# Altium schematic symbol library jlcpcb_2025_04_inductors_extended_1008.schlib: 378 symbols (part 1 of 7)
Pins are listed as number, name and electrical type; pins without a type are passive.

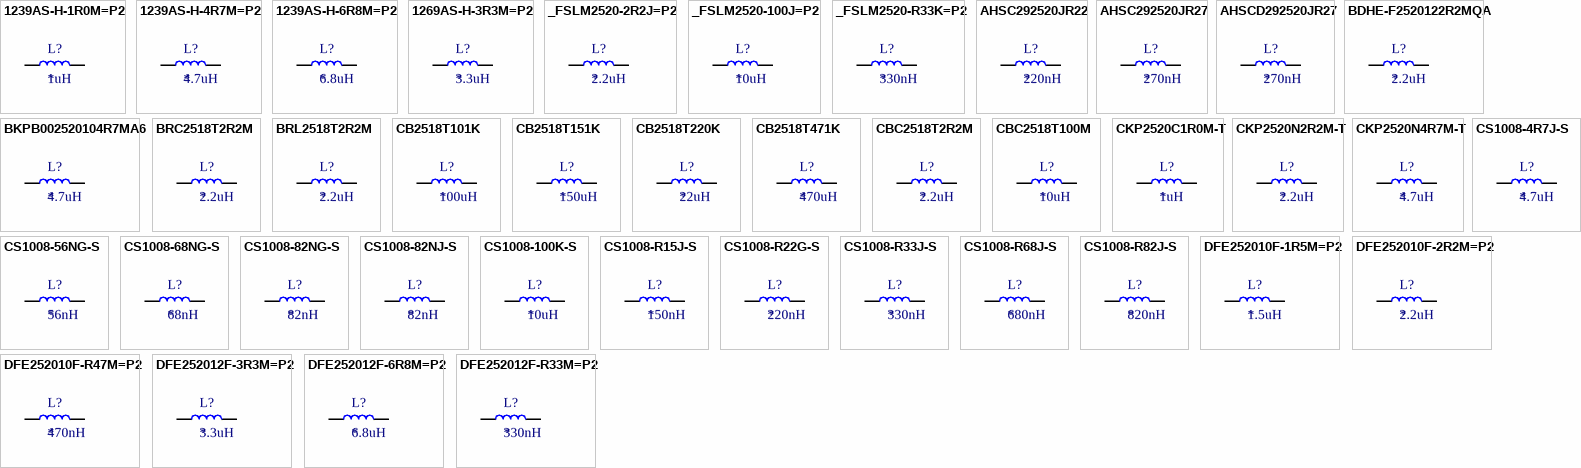
[diagram p0: symbols 1239AS-H-1R0M=P2 to DFE252012F-R33M=P2]

## 1239AS-H-1R0M=P2
designator L?  Inductance: 1uH
Inductor, 1uH, ±20%, 59mΩ, 3A, SMD 1008; Manufacturer: Murata Electronics; Manufacturer Part Number: 1239AS-H-1R0M=P2; Package Size: 1008; JLCPCB Basic Part: No; JLCPCB Part Number: C167447; Supplier 1: LCSC; Category: Inductors; Supplier Part Number 1: C167447; Tolerance: ±20%; Rated Current: 3A; DC Resistance: 59mΩ; RoHS: Yes; ComponentLink1Description: Datasheet; ComponentLink1URL: https://wmsc.lcsc.com/wmsc/upload/file/pdf/v2/lcsc/1810241615_Murata-Electronics-1239AS-H-1R0M-P2_C167447.pdf; ComponentLink2Description: JLCPCB Part URL; ComponentLink2URL: https://jlcpcb.com/partdetail/C167447; ComponentLink3Description: LCSC Part URL; ComponentLink3URL: https://lcsc.com/product-detail/Inductors-SMD_Murata-Electronics-Murata-Electronics-1239AS-H-1R0M%3DP2_C167447.html
footprint IND-1008 (1008 (2520M) Inductor)
pins: 1, 2

## 1239AS-H-4R7M=P2
designator L?  Inductance: 4.7uH
Inductor, 4.7uH, ±20%, 240mΩ, 1.5A, SMD 1008; Manufacturer: Murata Electronics; Manufacturer Part Number: 1239AS-H-4R7M=P2; Package Size: 1008; JLCPCB Basic Part: No; JLCPCB Part Number: C882976; Supplier 1: LCSC; Category: Inductors; Supplier Part Number 1: C882976; Tolerance: ±20%; Rated Current: 1.5A; DC Resistance: 240mΩ; RoHS: Yes; ComponentLink1Description: Datasheet; ComponentLink1URL: https://wmsc.lcsc.com/wmsc/upload/file/pdf/v2/lcsc/2201242130_Murata-Electronics-1239AS-H-4R7M-P2_C882976.pdf; ComponentLink2Description: JLCPCB Part URL; ComponentLink2URL: https://jlcpcb.com/partdetail/C882976; ComponentLink3Description: LCSC Part URL; ComponentLink3URL: https://lcsc.com/product-detail/Inductors-SMD_Murata-Electronics-Murata-Electronics-1239AS-H-4R7M%3DP2_C882976.html
footprint IND-1008 (1008 (2520M) Inductor)
pins: 1, 2

## 1239AS-H-6R8M=P2
designator L?  Inductance: 6.8uH
Inductor, 6.8uH, ±20%, 375mΩ, 1A, SMD 1008; Manufacturer: Murata Electronics; Manufacturer Part Number: 1239AS-H-6R8M=P2; Saturation Current: 1.3A; Package Size: 1008; JLCPCB Basic Part: No; JLCPCB Part Number: C2044376; Supplier 1: LCSC; Category: Inductors; Supplier Part Number 1: C2044376; Tolerance: ±20%; Rated Current: 1A; DC Resistance: 375mΩ; RoHS: Yes; ComponentLink1Description: Datasheet; ComponentLink1URL: https://wmsc.lcsc.com/wmsc/upload/file/pdf/v2/lcsc/2304140030_Murata-Electronics-1239AS-H-6R8M-P2_C2044376.pdf; ComponentLink2Description: JLCPCB Part URL; ComponentLink2URL: https://jlcpcb.com/partdetail/C2044376; ComponentLink3Description: LCSC Part URL; ComponentLink3URL: https://lcsc.com/product-detail/Power-Inductors_Murata-Electronics-Murata-Electronics-1239AS-H-6R8M%3DP2_C2044376.html
footprint IND-1008 (1008 (2520M) Inductor)
pins: 1, 2

## 1269AS-H-3R3M=P2
designator L?  Inductance: 3.3uH
Inductor, 3.3uH, ±20%, 228mΩ, 1.5A, SMD 1008; Manufacturer: Murata Electronics; Manufacturer Part Number: 1269AS-H-3R3M=P2; Package Size: 1008; JLCPCB Basic Part: No; JLCPCB Part Number: C560042; Supplier 1: LCSC; Category: Inductors; Supplier Part Number 1: C560042; Tolerance: ±20%; Rated Current: 1.5A; DC Resistance: 228mΩ; RoHS: Yes; ComponentLink1Description: Datasheet; ComponentLink1URL: https://wmsc.lcsc.com/wmsc/upload/file/pdf/v2/lcsc/2304140030_Murata-Electronics-1269AS-H-3R3M-P2_C560042.pdf; ComponentLink2Description: JLCPCB Part URL; ComponentLink2URL: https://jlcpcb.com/partdetail/C560042; ComponentLink3Description: LCSC Part URL; ComponentLink3URL: https://lcsc.com/product-detail/Power-Inductors_Murata-Electronics-Murata-Electronics-1269AS-H-3R3M%3DP2_C560042.html
footprint IND-1008 (1008 (2520M) Inductor)
pins: 1, 2

## _FSLM2520-2R2J=P2
designator L?  Inductance: 2.2uH
Inductor, 2.2uH, ±5%, 1.3Ω, 210mA, SMD 1008; Manufacturer: Murata Electronics; Manufacturer Part Number: #FSLM2520-2R2J=P2; Package Size: 1008; JLCPCB Basic Part: No; JLCPCB Part Number: C160944; Supplier 1: LCSC; Category: Inductors; Supplier Part Number 1: C160944; Tolerance: ±5%; Rated Current: 210mA; DC Resistance: 1.3Ω; RoHS: Yes; ComponentLink1Description: Datasheet; ComponentLink1URL: https://wmsc.lcsc.com/wmsc/upload/file/pdf/v2/lcsc/1810241514_Murata-Electronics--FSLM2520-2R2J-P2_C160944.pdf; ComponentLink2Description: JLCPCB Part URL; ComponentLink2URL: https://jlcpcb.com/partdetail/C160944; ComponentLink3Description: LCSC Part URL; ComponentLink3URL: https://lcsc.com/product-detail/Inductors-SMD_Murata-Electronics-Murata-Electronics-%23FSLM2520-2R2J%3DP2_C160944.html
footprint IND-1008 (1008 (2520M) Inductor)
pins: 1, 2

## _FSLM2520-100J=P2
designator L?  Inductance: 10uH
Inductor, 10uH, ±5%, 2.2Ω, 155mA, SMD 1008; Manufacturer: Murata Electronics; Manufacturer Part Number: #FSLM2520-100J=P2; Package Size: 1008; JLCPCB Basic Part: No; JLCPCB Part Number: C160943; Supplier 1: LCSC; Category: Inductors; Supplier Part Number 1: C160943; Tolerance: ±5%; Rated Current: 155mA; DC Resistance: 2.2Ω; RoHS: Yes; ComponentLink1Description: Datasheet; ComponentLink1URL: https://wmsc.lcsc.com/wmsc/upload/file/pdf/v2/lcsc/1808140041_Murata-Electronics--FSLM2520-100J-P2_C160943.pdf; ComponentLink2Description: JLCPCB Part URL; ComponentLink2URL: https://jlcpcb.com/partdetail/C160943; ComponentLink3Description: LCSC Part URL; ComponentLink3URL: https://lcsc.com/product-detail/Inductors-SMD_Murata-Electronics-Murata-Electronics-%23FSLM2520-100J%3DP2_C160943.html
footprint IND-1008 (1008 (2520M) Inductor)
pins: 1, 2

## _FSLM2520-R33K=P2
designator L?  Inductance: 330nH
Inductor, 330nH, ±5%, 390mΩ, 400mA, SMD 1008; Manufacturer: Murata Electronics; Manufacturer Part Number: #FSLM2520-R33K=P2; Package Size: 1008; JLCPCB Basic Part: No; JLCPCB Part Number: C160945; Supplier 1: LCSC; Category: Inductors; Supplier Part Number 1: C160945; Tolerance: ±5%; Rated Current: 400mA; DC Resistance: 390mΩ; RoHS: Yes; ComponentLink1Description: Datasheet; ComponentLink1URL: https://wmsc.lcsc.com/wmsc/upload/file/pdf/v2/lcsc/1810241533_Murata-Electronics--FSLM2520-R33K-P2_C160945.pdf; ComponentLink2Description: JLCPCB Part URL; ComponentLink2URL: https://jlcpcb.com/partdetail/C160945; ComponentLink3Description: LCSC Part URL; ComponentLink3URL: https://lcsc.com/product-detail/Inductors-SMD_Murata-Electronics-Murata-Electronics-%23FSLM2520-R33K%3DP2_C160945.html
footprint IND-1008 (1008 (2520M) Inductor)
pins: 1, 2

## AHSC292520JR22
designator L?  Inductance: 220nH
Inductor, 220nH, ±5%, 840mΩ, 500mA, SMD 1008; Manufacturer: COILANK INTERNATIONAL; Manufacturer Part Number: AHSC292520JR22; Self-Resonant Frequency: 700MHz; Q Factor: 45@100MHz; Package Size: 1008; JLCPCB Basic Part: No; JLCPCB Part Number: C561734; Supplier 1: LCSC; Category: Inductors; Supplier Part Number 1: C561734; Tolerance: ±5%; Rated Current: 500mA; DC Resistance: 840mΩ; RoHS: Yes; ComponentLink1Description: Datasheet; ComponentLink1URL: https://wmsc.lcsc.com/wmsc/upload/file/pdf/v2/lcsc/2006231007_COILANK-INTERNATIONAL-AHSC292520JR22_C561734.pdf; ComponentLink2Description: JLCPCB Part URL; ComponentLink2URL: https://jlcpcb.com/partdetail/C561734; ComponentLink3Description: LCSC Part URL; ComponentLink3URL: https://lcsc.com/product-detail/Inductors-SMD_COILANK-INTERNATIONAL-COILANK-INTERNATIONAL-AHSC292520JR22_C561734.html
footprint IND-1008 (1008 (2520M) Inductor)
pins: 1, 2

## AHSC292520JR27
designator L?  Inductance: 270nH
Inductor, 270nH, ±5%, 910mΩ, 500mA, SMD 1008; Manufacturer: COILANK INTERNATIONAL; Manufacturer Part Number: AHSC292520JR27; Self-Resonant Frequency: 600MHz; Q Factor: 45@100MHz; Package Size: 1008; JLCPCB Basic Part: No; JLCPCB Part Number: C561735; Supplier 1: LCSC; Category: Inductors; Supplier Part Number 1: C561735; Tolerance: ±5%; Rated Current: 500mA; DC Resistance: 910mΩ; RoHS: Yes; ComponentLink1Description: Datasheet; ComponentLink1URL: https://wmsc.lcsc.com/wmsc/upload/file/pdf/v2/lcsc/2006231007_COILANK-INTERNATIONAL-AHSC292520JR27_C561735.pdf; ComponentLink2Description: JLCPCB Part URL; ComponentLink2URL: https://jlcpcb.com/partdetail/C561735; ComponentLink3Description: LCSC Part URL; ComponentLink3URL: https://lcsc.com/product-detail/Inductors-SMD_COILANK-INTERNATIONAL-COILANK-INTERNATIONAL-AHSC292520JR27_C561735.html
footprint IND-1008 (1008 (2520M) Inductor)
pins: 1, 2

## AHSCD292520JR27
designator L?  Inductance: 270nH
Inductor, 270nH, ±5%, 910mΩ, 500mA, SMD 1008; Manufacturer: COILANK INTERNATIONAL; Manufacturer Part Number: AHSCD292520JR27; Self-Resonant Frequency: 600MHz; Q Factor: 45; Package Size: 1008; JLCPCB Basic Part: No; JLCPCB Part Number: C3001603; Supplier 1: LCSC; Category: Inductors; Supplier Part Number 1: C3001603; Tolerance: ±5%; Rated Current: 500mA; DC Resistance: 910mΩ; RoHS: Yes; ComponentLink1Description: Datasheet; ComponentLink1URL: https://wmsc.lcsc.com/wmsc/upload/file/pdf/v2/lcsc/2204261415_COILANK-INTERNATIONAL-AHSCD292520JR27_C3001603.pdf; ComponentLink2Description: JLCPCB Part URL; ComponentLink2URL: https://jlcpcb.com/partdetail/C3001603; ComponentLink3Description: LCSC Part URL; ComponentLink3URL: https://lcsc.com/product-detail/Inductors-SMD_COILANK-INTERNATIONAL-COILANK-INTERNATIONAL-AHSCD292520JR27_C3001603.html
footprint IND-1008 (1008 (2520M) Inductor)
pins: 1, 2

## BDHE-F2520122R2MQA
designator L?  Inductance: 2.2uH
Inductor, 2.2uH, ±20%, SMD 1008; Manufacturer: Chilisin Elec; Manufacturer Part Number: BDHE-F2520122R2MQA; Package Size: 1008; JLCPCB Basic Part: No; JLCPCB Part Number: C280239; Supplier 1: LCSC; Category: Inductors; Supplier Part Number 1: C280239; Tolerance: ±20%; RoHS: Yes; ComponentLink1Description: Datasheet; ComponentLink2Description: JLCPCB Part URL; ComponentLink2URL: https://jlcpcb.com/partdetail/C280239; ComponentLink3Description: LCSC Part URL; ComponentLink3URL: https://lcsc.com/product-detail/Inductors-SMD_Chilisin-Elec-Chilisin-Elec-BDHE-F2520122R2MQA_C280239.html
footprint IND-1008 (1008 (2520M) Inductor)
pins: 1, 2

## BKPB002520104R7MA6
designator L?  Inductance: 4.7uH
Inductor, 4.7uH, ±20%, SMD 1008; Manufacturer: Chilisin Elec; Manufacturer Part Number: BKPB002520104R7MA6; Package Size: 1008; JLCPCB Basic Part: No; JLCPCB Part Number: C2981204; Supplier 1: LCSC; Category: Inductors; Supplier Part Number 1: C2981204; Tolerance: ±20%; RoHS: Yes; ComponentLink1Description: Datasheet; ComponentLink1URL: https://wmsc.lcsc.com/wmsc/upload/file/pdf/v2/lcsc/2203101903_Chilisin-Elec-BKPB002520104R7MA6_C2981204.pdf; ComponentLink2Description: JLCPCB Part URL; ComponentLink2URL: https://jlcpcb.com/partdetail/C2981204; ComponentLink3Description: LCSC Part URL; ComponentLink3URL: https://lcsc.com/product-detail/Power-Inductors_Chilisin-Elec-Chilisin-Elec-BKPB002520104R7MA6_C2981204.html
footprint IND-1008 (1008 (2520M) Inductor)
pins: 1, 2

## BRC2518T2R2M
designator L?  Inductance: 2.2uH
Inductor, 2.2uH, ±20%, 115mΩ, 1A, SMD 1008; Manufacturer: Taiyo Yuden; Manufacturer Part Number: BRC2518T2R2M; Package Size: 1008; JLCPCB Basic Part: No; JLCPCB Part Number: C454085; Supplier 1: LCSC; Category: Inductors; Supplier Part Number 1: C454085; Tolerance: ±20%; Rated Current: 1A; DC Resistance: 115mΩ; RoHS: Yes; ComponentLink1Description: Datasheet; ComponentLink1URL: https://wmsc.lcsc.com/wmsc/upload/file/pdf/v2/lcsc/2304140030_Taiyo-Yuden-BRC2518T2R2M_C454085.pdf; ComponentLink2Description: JLCPCB Part URL; ComponentLink2URL: https://jlcpcb.com/partdetail/C454085; ComponentLink3Description: LCSC Part URL; ComponentLink3URL: https://lcsc.com/product-detail/Inductors-SMD_Taiyo-Yuden-Taiyo-Yuden-BRC2518T2R2M_C454085.html
footprint IND-1008 (1008 (2520M) Inductor)
pins: 1, 2

## BRL2518T2R2M
designator L?  Inductance: 2.2uH
Inductor, 2.2uH, ±20%, 120mΩ, 1A, SMD 1008; Manufacturer: Taiyo Yuden; Manufacturer Part Number: BRL2518T2R2M; Package Size: 1008; JLCPCB Basic Part: No; JLCPCB Part Number: C454086; Supplier 1: LCSC; Category: Inductors; Supplier Part Number 1: C454086; Tolerance: ±20%; Rated Current: 1A; DC Resistance: 120mΩ; RoHS: Yes; ComponentLink1Description: Datasheet; ComponentLink1URL: https://wmsc.lcsc.com/wmsc/upload/file/pdf/v2/lcsc/2304140030_Taiyo-Yuden-BRL2518T2R2M_C454086.pdf; ComponentLink2Description: JLCPCB Part URL; ComponentLink2URL: https://jlcpcb.com/partdetail/C454086; ComponentLink3Description: LCSC Part URL; ComponentLink3URL: https://lcsc.com/product-detail/Inductors-SMD_Taiyo-Yuden-Taiyo-Yuden-BRL2518T2R2M_C454086.html
footprint IND-1008 (1008 (2520M) Inductor)
pins: 1, 2

## CB2518T101K
designator L?  Inductance: 100uH
Inductor, 100uH, ±10%, 2.1Ω, 60mA, SMD 1008; Manufacturer: Taiyo Yuden; Manufacturer Part Number: CB2518T101K; Package Size: 1008; JLCPCB Basic Part: No; JLCPCB Part Number: C223206; Supplier 1: LCSC; Category: Inductors; Supplier Part Number 1: C223206; Tolerance: ±10%; Rated Current: 60mA; DC Resistance: 2.1Ω; RoHS: Yes; ComponentLink1Description: Datasheet; ComponentLink1URL: https://wmsc.lcsc.com/wmsc/upload/file/pdf/v2/lcsc/2304140030_Taiyo-Yuden-CB2518T101K_C223206.pdf; ComponentLink2Description: JLCPCB Part URL; ComponentLink2URL: https://jlcpcb.com/partdetail/C223206; ComponentLink3Description: LCSC Part URL; ComponentLink3URL: https://lcsc.com/product-detail/Inductors-SMD_Taiyo-Yuden-Taiyo-Yuden-CB2518T101K_C223206.html
footprint IND-1008 (1008 (2520M) Inductor)
pins: 1, 2

## CB2518T151K
designator L?  Inductance: 150uH
Inductor, 150uH, ±10%, 3.2Ω, 55mA, SMD 1008; Manufacturer: Taiyo Yuden; Manufacturer Part Number: CB2518T151K; Self-Resonant Frequency: 7MHz; Package Size: 1008; JLCPCB Basic Part: No; JLCPCB Part Number: C223208; Supplier 1: LCSC; Category: Inductors; Supplier Part Number 1: C223208; Tolerance: ±10%; Rated Current: 55mA; Saturation Current: 55mA; DC Resistance: 3.2Ω; RoHS: Yes; ComponentLink1Description: Datasheet; ComponentLink1URL: https://wmsc.lcsc.com/wmsc/upload/file/pdf/v2/lcsc/2304140030_Taiyo-Yuden-CB2518T151K_C223208.pdf; ComponentLink2Description: JLCPCB Part URL; ComponentLink2URL: https://jlcpcb.com/partdetail/C223208; ComponentLink3Description: LCSC Part URL; ComponentLink3URL: https://lcsc.com/product-detail/Inductors-SMD_Taiyo-Yuden-Taiyo-Yuden-CB2518T151K_C223208.html
footprint IND-1008 (1008 (2520M) Inductor)
pins: 1, 2

## CB2518T220K
designator L?  Inductance: 22uH
Inductor, 22uH, ±10%, 500mΩ, 165mA, SMD 1008; Manufacturer: Taiyo Yuden; Manufacturer Part Number: CB2518T220K; Package Size: 1008; JLCPCB Basic Part: No; JLCPCB Part Number: C223199; Supplier 1: LCSC; Category: Inductors; Supplier Part Number 1: C223199; Tolerance: ±10%; Rated Current: 165mA; DC Resistance: 500mΩ; RoHS: Yes; ComponentLink1Description: Datasheet; ComponentLink1URL: https://wmsc.lcsc.com/wmsc/upload/file/pdf/v2/lcsc/2304140030_Taiyo-Yuden-CB2518T220K_C223199.pdf; ComponentLink2Description: JLCPCB Part URL; ComponentLink2URL: https://jlcpcb.com/partdetail/C223199; ComponentLink3Description: LCSC Part URL; ComponentLink3URL: https://lcsc.com/product-detail/Inductors-SMD_Taiyo-Yuden-Taiyo-Yuden-CB2518T220K_C223199.html
footprint IND-1008 (1008 (2520M) Inductor)
pins: 1, 2

## CB2518T471K
designator L?  Inductance: 470uH
Inductor, 470uH, ±10%, 10Ω, 35mA, SMD 1008; Manufacturer: Taiyo Yuden; Manufacturer Part Number: CB2518T471K; Self-Resonant Frequency: 3.5MHz; Package Size: 1008; JLCPCB Basic Part: No; JLCPCB Part Number: C223214; Supplier 1: LCSC; Category: Inductors; Supplier Part Number 1: C223214; Tolerance: ±10%; Rated Current: 35mA; Saturation Current: 35mA; DC Resistance: 10Ω; RoHS: Yes; ComponentLink1Description: Datasheet; ComponentLink1URL: https://wmsc.lcsc.com/wmsc/upload/file/pdf/v2/lcsc/1912111437_Taiyo-Yuden-CB2518T471K_C223214.pdf; ComponentLink2Description: JLCPCB Part URL; ComponentLink2URL: https://jlcpcb.com/partdetail/C223214; ComponentLink3Description: LCSC Part URL; ComponentLink3URL: https://lcsc.com/product-detail/Inductors-SMD_Taiyo-Yuden-Taiyo-Yuden-CB2518T471K_C223214.html
footprint IND-1008 (1008 (2520M) Inductor)
pins: 1, 2

## CBC2518T2R2M
designator L?  Inductance: 2.2uH
Inductor, 2.2uH, ±20%, 130mΩ, 890mA, SMD 1008; Manufacturer: Taiyo Yuden; Manufacturer Part Number: CBC2518T2R2M; Self-Resonant Frequency: 68MHz; Package Size: 1008; JLCPCB Basic Part: No; JLCPCB Part Number: C454093; Supplier 1: LCSC; Category: Inductors; Supplier Part Number 1: C454093; Tolerance: ±20%; Rated Current: 890mA; Saturation Current: 890mA; DC Resistance: 130mΩ; RoHS: Yes; ComponentLink1Description: Datasheet; ComponentLink1URL: https://wmsc.lcsc.com/wmsc/upload/file/pdf/v2/lcsc/2002241106_Taiyo-Yuden-CBC2518T2R2M_C454093.pdf; ComponentLink2Description: JLCPCB Part URL; ComponentLink2URL: https://jlcpcb.com/partdetail/C454093; ComponentLink3Description: LCSC Part URL; ComponentLink3URL: https://lcsc.com/product-detail/Inductors-SMD_Taiyo-Yuden-Taiyo-Yuden-CBC2518T2R2M_C454093.html
footprint IND-1008 (1008 (2520M) Inductor)
pins: 1, 2

## CBC2518T100M
designator L?  Inductance: 10uH
Inductor, 10uH, ±20%, 468mΩ, 480mA, SMD 1008; Manufacturer: Taiyo Yuden; Manufacturer Part Number: CBC2518T100M; Self-Resonant Frequency: 30MHz; Package Size: 1008; JLCPCB Basic Part: No; JLCPCB Part Number: C92979; Supplier 1: LCSC; Category: Inductors; Supplier Part Number 1: C92979; Tolerance: ±20%; Rated Current: 480mA; Saturation Current: 480mA; DC Resistance: 468mΩ; RoHS: Yes; ComponentLink1Description: Datasheet; ComponentLink1URL: https://wmsc.lcsc.com/wmsc/upload/file/pdf/v2/lcsc/1809272135_Taiyo-Yuden-CBC2518T100M_C92979.pdf; ComponentLink2Description: JLCPCB Part URL; ComponentLink2URL: https://jlcpcb.com/partdetail/C92979; ComponentLink3Description: LCSC Part URL; ComponentLink3URL: https://lcsc.com/product-detail/Inductors-SMD_Taiyo-Yuden-Taiyo-Yuden-CBC2518T100M_C92979.html
footprint IND-1008 (1008 (2520M) Inductor)
pins: 1, 2

## CKP2520C1R0M-T
designator L?  Inductance: 1uH
Inductor, 1uH, ±20%, 80mΩ, 1.4A, SMD 1008; Manufacturer: Taiyo Yuden; Manufacturer Part Number: CKP2520C1R0M-T; Package Size: 1008; JLCPCB Basic Part: No; JLCPCB Part Number: C1333183; Supplier 1: LCSC; Category: Inductors; Supplier Part Number 1: C1333183; Tolerance: ±20%; Rated Current: 1.4A; DC Resistance: 80mΩ; RoHS: Yes; ComponentLink1Description: Datasheet; ComponentLink1URL: https://wmsc.lcsc.com/wmsc/upload/file/pdf/v2/lcsc/2404231147_Taiyo-Yuden-CKP2520C1R0M-T_C1333183.pdf; ComponentLink2Description: JLCPCB Part URL; ComponentLink2URL: https://jlcpcb.com/partdetail/C1333183; ComponentLink3Description: LCSC Part URL; ComponentLink3URL: https://lcsc.com/product-detail/Inductors-SMD_Taiyo-Yuden-Taiyo-Yuden-CKP2520C1R0M-T_C1333183.html
footprint IND-1008 (1008 (2520M) Inductor)
pins: 1, 2

## CKP2520N2R2M-T
designator L?  Inductance: 2.2uH
Inductor, 2.2uH, ±20%, 90mΩ, 1.2A, SMD 1008; Manufacturer: Taiyo Yuden; Manufacturer Part Number: CKP2520N2R2M-T; Package Size: 1008; JLCPCB Basic Part: No; JLCPCB Part Number: C454095; Supplier 1: LCSC; Category: Inductors; Supplier Part Number 1: C454095; Tolerance: ±20%; Rated Current: 1.2A; DC Resistance: 90mΩ; RoHS: Yes; ComponentLink1Description: Datasheet; ComponentLink1URL: https://wmsc.lcsc.com/wmsc/upload/file/pdf/v2/lcsc/2004161032_Taiyo-Yuden-CKP2520N2R2M-T_C454095.pdf; ComponentLink2Description: JLCPCB Part URL; ComponentLink2URL: https://jlcpcb.com/partdetail/C454095; ComponentLink3Description: LCSC Part URL; ComponentLink3URL: https://lcsc.com/product-detail/Inductors-SMD_Taiyo-Yuden-Taiyo-Yuden-CKP2520N2R2M-T_C454095.html
footprint IND-1008 (1008 (2520M) Inductor)
pins: 1, 2

## CKP2520N4R7M-T
designator L?  Inductance: 4.7uH
Inductor, 4.7uH, ±20%, 160mΩ, 1.1A, SMD 1008; Manufacturer: Taiyo Yuden; Manufacturer Part Number: CKP2520N4R7M-T; Package Size: 1008; JLCPCB Basic Part: No; JLCPCB Part Number: C1333179; Supplier 1: LCSC; Category: Inductors; Supplier Part Number 1: C1333179; Tolerance: ±20%; Rated Current: 1.1A; DC Resistance: 160mΩ; RoHS: Yes; ComponentLink1Description: Datasheet; ComponentLink1URL: https://wmsc.lcsc.com/wmsc/upload/file/pdf/v2/lcsc/2404231147_Taiyo-Yuden-CKP2520N4R7M-T_C1333179.pdf; ComponentLink2Description: JLCPCB Part URL; ComponentLink2URL: https://jlcpcb.com/partdetail/C1333179; ComponentLink3Description: LCSC Part URL; ComponentLink3URL: https://lcsc.com/product-detail/Inductors-SMD_Taiyo-Yuden-Taiyo-Yuden-CKP2520N4R7M-T_C1333179.html
footprint IND-1008 (1008 (2520M) Inductor)
pins: 1, 2

## CS1008-4R7J-S
designator L?  Inductance: 4.7uH
Inductor, 4.7uH, ±5%, 4Ω, 260mA, SMD 1008; Manufacturer: Chilisin Elec; Manufacturer Part Number: CS1008-4R7J-S; Self-Resonant Frequency: 90MHz; Q Factor: 20@7.9MHz; Package Size: 1008; JLCPCB Basic Part: No; JLCPCB Part Number: C108275; Supplier 1: LCSC; Category: Inductors; Supplier Part Number 1: C108275; Tolerance: ±5%; Rated Current: 260mA; DC Resistance: 4Ω; RoHS: Yes; ComponentLink1Description: Datasheet; ComponentLink1URL: https://wmsc.lcsc.com/wmsc/upload/file/pdf/v2/lcsc/2304140030_Chilisin-Elec-CS1008-4R7J-S_C108275.pdf; ComponentLink2Description: JLCPCB Part URL; ComponentLink2URL: https://jlcpcb.com/partdetail/C108275; ComponentLink3Description: LCSC Part URL; ComponentLink3URL: https://lcsc.com/product-detail/Inductors-SMD_Chilisin-Elec-Chilisin-Elec-CS1008-4R7J-S_C108275.html
footprint IND-1008 (1008 (2520M) Inductor)
pins: 1, 2

## CS1008-56NG-S
designator L?  Inductance: 56nH
Inductor, 56nH, ±2%, 180mΩ, 1A, SMD 1008; Manufacturer: Chilisin Elec; Manufacturer Part Number: CS1008-56NG-S; Self-Resonant Frequency: 1.3GHz; Q Factor: 65@50MHz; Package Size: 1008; JLCPCB Basic Part: No; JLCPCB Part Number: C285942; Supplier 1: LCSC; Category: Inductors; Supplier Part Number 1: C285942; Tolerance: ±2%; Rated Current: 1A; DC Resistance: 180mΩ; RoHS: Yes; ComponentLink1Description: Datasheet; ComponentLink1URL: https://wmsc.lcsc.com/wmsc/upload/file/pdf/v2/lcsc/2304140030_Chilisin-Elec-CS1008-56NG-S_C285942.pdf; ComponentLink2Description: JLCPCB Part URL; ComponentLink2URL: https://jlcpcb.com/partdetail/C285942; ComponentLink3Description: LCSC Part URL; ComponentLink3URL: https://lcsc.com/product-detail/Inductors-SMD_Chilisin-Elec-Chilisin-Elec-CS1008-56NG-S_C285942.html
footprint IND-1008 (1008 (2520M) Inductor)
pins: 1, 2

## CS1008-68NG-S
designator L?  Inductance: 68nH
Inductor, 68nH, ±2%, 200mΩ, 1A, SMD 1008; Manufacturer: Chilisin Elec; Manufacturer Part Number: CS1008-68NG-S; Self-Resonant Frequency: 1.3GHz; Q Factor: 65@50MHz; Package Size: 1008; JLCPCB Basic Part: No; JLCPCB Part Number: C285941; Supplier 1: LCSC; Category: Inductors; Supplier Part Number 1: C285941; Tolerance: ±2%; Rated Current: 1A; DC Resistance: 200mΩ; RoHS: Yes; ComponentLink1Description: Datasheet; ComponentLink1URL: https://wmsc.lcsc.com/wmsc/upload/file/pdf/v2/lcsc/2304140030_Chilisin-Elec-CS1008-68NG-S_C285941.pdf; ComponentLink2Description: JLCPCB Part URL; ComponentLink2URL: https://jlcpcb.com/partdetail/C285941; ComponentLink3Description: LCSC Part URL; ComponentLink3URL: https://lcsc.com/product-detail/Inductors-SMD_Chilisin-Elec-Chilisin-Elec-CS1008-68NG-S_C285941.html
footprint IND-1008 (1008 (2520M) Inductor)
pins: 1, 2

## CS1008-82NG-S
designator L?  Inductance: 82nH
Inductor, 82nH, ±2%, 220mΩ, 1A, SMD 1008; Manufacturer: Chilisin Elec; Manufacturer Part Number: CS1008-82NG-S; Self-Resonant Frequency: 1GHz; Q Factor: 60@50MHz; Package Size: 1008; JLCPCB Basic Part: No; JLCPCB Part Number: C285940; Supplier 1: LCSC; Category: Inductors; Supplier Part Number 1: C285940; Tolerance: ±2%; Rated Current: 1A; DC Resistance: 220mΩ; RoHS: Yes; ComponentLink1Description: Datasheet; ComponentLink1URL: https://wmsc.lcsc.com/wmsc/upload/file/pdf/v2/lcsc/2203301830_Chilisin-Elec-CS1008-82NG-S_C285940.pdf; ComponentLink2Description: JLCPCB Part URL; ComponentLink2URL: https://jlcpcb.com/partdetail/C285940; ComponentLink3Description: LCSC Part URL; ComponentLink3URL: https://lcsc.com/product-detail/Inductors-SMD_Chilisin-Elec-Chilisin-Elec-CS1008-82NG-S_C285940.html
footprint IND-1008 (1008 (2520M) Inductor)
pins: 1, 2

## CS1008-82NJ-S
designator L?  Inductance: 82nH
Inductor, 82nH, ±5%, 220mΩ, 1A, SMD 1008; Manufacturer: Chilisin Elec; Manufacturer Part Number: CS1008-82NJ-S; Self-Resonant Frequency: 1GHz; Q Factor: 60@50MHz; Package Size: 1008; JLCPCB Basic Part: No; JLCPCB Part Number: C373758; Supplier 1: LCSC; Category: Inductors; Supplier Part Number 1: C373758; Tolerance: ±5%; Rated Current: 1A; DC Resistance: 220mΩ; RoHS: Yes; ComponentLink1Description: Datasheet; ComponentLink1URL: https://wmsc.lcsc.com/wmsc/upload/file/pdf/v2/lcsc/2304140030_Chilisin-Elec-CS1008-82NJ-S_C373758.pdf; ComponentLink2Description: JLCPCB Part URL; ComponentLink2URL: https://jlcpcb.com/partdetail/C373758; ComponentLink3Description: LCSC Part URL; ComponentLink3URL: https://lcsc.com/product-detail/Inductors-SMD_Chilisin-Elec-Chilisin-Elec-CS1008-82NJ-S_C373758.html
footprint IND-1008 (1008 (2520M) Inductor)
pins: 1, 2

## CS1008-100K-S
designator L?  Inductance: 10uH
Inductor, 10uH, ±10%, 8Ω, 150mA, SMD 1008; Manufacturer: Chilisin Elec; Manufacturer Part Number: CS1008-100K-S; Self-Resonant Frequency: 25MHz; Q Factor: 18@2.52MHz; Package Size: 1008; JLCPCB Basic Part: No; JLCPCB Part Number: C280469; Supplier 1: LCSC; Category: Inductors; Supplier Part Number 1: C280469; Tolerance: ±10%; Rated Current: 150mA; DC Resistance: 8Ω; RoHS: Yes; ComponentLink1Description: Datasheet; ComponentLink1URL: https://wmsc.lcsc.com/wmsc/upload/file/pdf/v2/lcsc/2304140030_Chilisin-Elec-CS1008-100K-S_C280469.pdf; ComponentLink2Description: JLCPCB Part URL; ComponentLink2URL: https://jlcpcb.com/partdetail/C280469; ComponentLink3Description: LCSC Part URL; ComponentLink3URL: https://lcsc.com/product-detail/Inductors-SMD_Chilisin-Elec-Chilisin-Elec-CS1008-100K-S_C280469.html
footprint IND-1008 (1008 (2520M) Inductor)
pins: 1, 2

## CS1008-R15J-S
designator L?  Inductance: 150nH
Inductor, 150nH, ±5%, 700mΩ, 580mA, SMD 1008; Manufacturer: Chilisin Elec; Manufacturer Part Number: CS1008-R15J-S; Self-Resonant Frequency: 850MHz; Q Factor: 45@25MHz; Package Size: 1008; JLCPCB Basic Part: No; JLCPCB Part Number: C280471; Supplier 1: LCSC; Category: Inductors; Supplier Part Number 1: C280471; Tolerance: ±5%; Rated Current: 580mA; DC Resistance: 700mΩ; RoHS: Yes; ComponentLink1Description: Datasheet; ComponentLink1URL: https://wmsc.lcsc.com/wmsc/upload/file/pdf/v2/lcsc/2304140030_Chilisin-Elec-CS1008-R15J-S_C280471.pdf; ComponentLink2Description: JLCPCB Part URL; ComponentLink2URL: https://jlcpcb.com/partdetail/C280471; ComponentLink3Description: LCSC Part URL; ComponentLink3URL: https://lcsc.com/product-detail/Inductors-SMD_Chilisin-Elec-Chilisin-Elec-CS1008-R15J-S_C280471.html
footprint IND-1008 (1008 (2520M) Inductor)
pins: 1, 2

## CS1008-R22G-S
designator L?  Inductance: 220nH
Inductor, 220nH, ±2%, 840mΩ, 500mA, SMD 1008; Manufacturer: Chilisin Elec; Manufacturer Part Number: CS1008-R22G-S; Self-Resonant Frequency: 700MHz; Q Factor: 45@25MHz; Package Size: 1008; JLCPCB Basic Part: No; JLCPCB Part Number: C285939; Supplier 1: LCSC; Category: Inductors; Supplier Part Number 1: C285939; Tolerance: ±2%; Rated Current: 500mA; DC Resistance: 840mΩ; RoHS: Yes; ComponentLink1Description: Datasheet; ComponentLink1URL: https://wmsc.lcsc.com/wmsc/upload/file/pdf/v2/lcsc/2304140030_Chilisin-Elec-CS1008-R22G-S_C285939.pdf; ComponentLink2Description: JLCPCB Part URL; ComponentLink2URL: https://jlcpcb.com/partdetail/C285939; ComponentLink3Description: LCSC Part URL; ComponentLink3URL: https://lcsc.com/product-detail/Inductors-SMD_Chilisin-Elec-Chilisin-Elec-CS1008-R22G-S_C285939.html
footprint IND-1008 (1008 (2520M) Inductor)
pins: 1, 2

## CS1008-R33J-S
designator L?  Inductance: 330nH
Inductor, 330nH, ±5%, 1.05Ω, 450mA, SMD 1008; Manufacturer: Chilisin Elec; Manufacturer Part Number: CS1008-R33J-S; Self-Resonant Frequency: 570MHz; Q Factor: 45@25MHz; Package Size: 1008; JLCPCB Basic Part: No; JLCPCB Part Number: C280473; Supplier 1: LCSC; Category: Inductors; Supplier Part Number 1: C280473; Tolerance: ±5%; Rated Current: 450mA; DC Resistance: 1.05Ω; RoHS: Yes; ComponentLink1Description: Datasheet; ComponentLink1URL: https://wmsc.lcsc.com/wmsc/upload/file/pdf/v2/lcsc/2304140030_Chilisin-Elec-CS1008-R33J-S_C280473.pdf; ComponentLink2Description: JLCPCB Part URL; ComponentLink2URL: https://jlcpcb.com/partdetail/C280473; ComponentLink3Description: LCSC Part URL; ComponentLink3URL: https://lcsc.com/product-detail/Inductors-SMD_Chilisin-Elec-Chilisin-Elec-CS1008-R33J-S_C280473.html
footprint IND-1008 (1008 (2520M) Inductor)
pins: 1, 2

## CS1008-R68J-S
designator L?  Inductance: 680nH
Inductor, 680nH, ±5%, 1.47Ω, 400mA, SMD 1008; Manufacturer: Chilisin Elec; Manufacturer Part Number: CS1008-R68J-S; Self-Resonant Frequency: 375MHz; Q Factor: 45@25MHz; Package Size: 1008; JLCPCB Basic Part: No; JLCPCB Part Number: C373759; Supplier 1: LCSC; Category: Inductors; Supplier Part Number 1: C373759; Tolerance: ±5%; Rated Current: 400mA; DC Resistance: 1.47Ω; RoHS: Yes; ComponentLink1Description: Datasheet; ComponentLink1URL: https://wmsc.lcsc.com/wmsc/upload/file/pdf/v2/lcsc/2304140030_Chilisin-Elec-CS1008-R68J-S_C373759.pdf; ComponentLink2Description: JLCPCB Part URL; ComponentLink2URL: https://jlcpcb.com/partdetail/C373759; ComponentLink3Description: LCSC Part URL; ComponentLink3URL: https://lcsc.com/product-detail/Inductors-SMD_Chilisin-Elec-Chilisin-Elec-CS1008-R68J-S_C373759.html
footprint IND-1008 (1008 (2520M) Inductor)
pins: 1, 2

## CS1008-R82J-S
designator L?  Inductance: 820nH
Inductor, 820nH, ±5%, 1.61Ω, 400mA, SMD 1008; Manufacturer: Chilisin Elec; Manufacturer Part Number: CS1008-R82J-S; Self-Resonant Frequency: 350MHz; Q Factor: 45@25MHz; Package Size: 1008; JLCPCB Basic Part: No; JLCPCB Part Number: C280474; Supplier 1: LCSC; Category: Inductors; Supplier Part Number 1: C280474; Tolerance: ±5%; Rated Current: 400mA; DC Resistance: 1.61Ω; RoHS: Yes; ComponentLink1Description: Datasheet; ComponentLink1URL: https://wmsc.lcsc.com/wmsc/upload/file/pdf/v2/lcsc/1810262121_Chilisin-Elec-CS1008-R82J-S_C280474.pdf; ComponentLink2Description: JLCPCB Part URL; ComponentLink2URL: https://jlcpcb.com/partdetail/C280474; ComponentLink3Description: LCSC Part URL; ComponentLink3URL: https://lcsc.com/product-detail/Inductors-SMD_Chilisin-Elec-Chilisin-Elec-CS1008-R82J-S_C280474.html
footprint IND-1008 (1008 (2520M) Inductor)
pins: 1, 2

## DFE252010F-1R5M=P2
designator L?  Inductance: 1.5uH
Inductor, 1.5uH, ±20%, 72mΩ, 2.5A, SMD 1008; Manufacturer: Murata Electronics; Manufacturer Part Number: DFE252010F-1R5M=P2; Saturation Current: 3.4A; Package Size: 1008; JLCPCB Basic Part: No; JLCPCB Part Number: C2042459; Supplier 1: LCSC; Category: Inductors; Supplier Part Number 1: C2042459; Tolerance: ±20%; Rated Current: 2.5A; DC Resistance: 72mΩ; RoHS: Yes; ComponentLink1Description: Datasheet; ComponentLink1URL: https://wmsc.lcsc.com/wmsc/upload/file/pdf/v2/lcsc/2304140030_Murata-Electronics-DFE252010F-1R5M-P2_C2042459.pdf; ComponentLink2Description: JLCPCB Part URL; ComponentLink2URL: https://jlcpcb.com/partdetail/C2042459; ComponentLink3Description: LCSC Part URL; ComponentLink3URL: https://lcsc.com/product-detail/Power-Inductors_Murata-Electronics-Murata-Electronics-DFE252010F-1R5M%3DP2_C2042459.html
footprint IND-1008 (1008 (2520M) Inductor)
pins: 1, 2

## DFE252010F-2R2M=P2
designator L?  Inductance: 2.2uH
Inductor, 2.2uH, ±20%, 97mΩ, 2.3A, SMD 1008; Manufacturer: Murata Electronics; Manufacturer Part Number: DFE252010F-2R2M=P2; Package Size: 1008; JLCPCB Basic Part: No; JLCPCB Part Number: C488330; Supplier 1: LCSC; Category: Inductors; Supplier Part Number 1: C488330; Tolerance: ±20%; Rated Current: 2.3A; DC Resistance: 97mΩ; RoHS: Yes; ComponentLink1Description: Datasheet; ComponentLink1URL: https://wmsc.lcsc.com/wmsc/upload/file/pdf/v2/lcsc/2002251109_Murata-Electronics-DFE252010F-2R2M-P2_C488330.pdf; ComponentLink2Description: JLCPCB Part URL; ComponentLink2URL: https://jlcpcb.com/partdetail/C488330; ComponentLink3Description: LCSC Part URL; ComponentLink3URL: https://lcsc.com/product-detail/Inductors-SMD_Murata-Electronics-Murata-Electronics-DFE252010F-2R2M%3DP2_C488330.html
footprint IND-1008 (1008 (2520M) Inductor)
pins: 1, 2

## DFE252010F-R47M=P2
designator L?  Inductance: 470nH
Inductor, 470nH, ±20%, 27mΩ, 4.4A, SMD 1008; Manufacturer: Murata Electronics; Manufacturer Part Number: DFE252010F-R47M=P2; Saturation Current: 6.6A; Package Size: 1008; JLCPCB Basic Part: No; JLCPCB Part Number: C560055; Supplier 1: LCSC; Category: Inductors; Supplier Part Number 1: C560055; Tolerance: ±20%; Rated Current: 4.4A; DC Resistance: 27mΩ; RoHS: Yes; ComponentLink1Description: Datasheet; ComponentLink1URL: https://wmsc.lcsc.com/wmsc/upload/file/pdf/v2/lcsc/2304140030_Murata-Electronics-DFE252010F-R47M-P2_C560055.pdf; ComponentLink2Description: JLCPCB Part URL; ComponentLink2URL: https://jlcpcb.com/partdetail/C560055; ComponentLink3Description: LCSC Part URL; ComponentLink3URL: https://lcsc.com/product-detail/Power-Inductors_Murata-Electronics-Murata-Electronics-DFE252010F-R47M%3DP2_C560055.html
footprint IND-1008 (1008 (2520M) Inductor)
pins: 1, 2

## DFE252012F-3R3M=P2
designator L?  Inductance: 3.3uH
Inductor, 3.3uH, ±20%, 110mΩ, 1.8A, SMD 1008; Manufacturer: Murata Electronics; Manufacturer Part Number: DFE252012F-3R3M=P2; Saturation Current: 2.8A; Package Size: 1008; JLCPCB Basic Part: No; JLCPCB Part Number: C2041573; Supplier 1: LCSC; Category: Inductors; Supplier Part Number 1: C2041573; Tolerance: ±20%; Rated Current: 1.8A; DC Resistance: 110mΩ; RoHS: Yes; ComponentLink1Description: Datasheet; ComponentLink1URL: https://wmsc.lcsc.com/wmsc/upload/file/pdf/v2/lcsc/2304140030_Murata-Electronics-DFE252012F-3R3M-P2_C2041573.pdf; ComponentLink2Description: JLCPCB Part URL; ComponentLink2URL: https://jlcpcb.com/partdetail/C2041573; ComponentLink3Description: LCSC Part URL; ComponentLink3URL: https://lcsc.com/product-detail/Inductors-SMD_Murata-Electronics-Murata-Electronics-DFE252012F-3R3M%3DP2_C2041573.html
footprint IND-1008 (1008 (2520M) Inductor)
pins: 1, 2

## DFE252012F-6R8M=P2
designator L?  Inductance: 6.8uH
Inductor, 6.8uH, ±20%, 270mΩ, 1.4A, SMD 1008; Manufacturer: Murata Electronics; Manufacturer Part Number: DFE252012F-6R8M=P2; Package Size: 1008; JLCPCB Basic Part: No; JLCPCB Part Number: C2041474; Supplier 1: LCSC; Category: Inductors; Supplier Part Number 1: C2041474; Tolerance: ±20%; Rated Current: 1.4A; DC Resistance: 270mΩ; RoHS: Yes; ComponentLink1Description: Datasheet; ComponentLink1URL: https://wmsc.lcsc.com/wmsc/upload/file/pdf/v2/lcsc/2304140030_Murata-Electronics-DFE252012F-6R8M-P2_C2041474.pdf; ComponentLink2Description: JLCPCB Part URL; ComponentLink2URL: https://jlcpcb.com/partdetail/C2041474; ComponentLink3Description: LCSC Part URL; ComponentLink3URL: https://lcsc.com/product-detail/Inductors-SMD_Murata-Electronics-Murata-Electronics-DFE252012F-6R8M%3DP2_C2041474.html
footprint IND-1008 (1008 (2520M) Inductor)
pins: 1, 2

## DFE252012F-R33M=P2
designator L?  Inductance: 330nH
Inductor, 330nH, ±20%, 14mΩ, 5.1A, SMD 1008; Manufacturer: Murata Electronics; Manufacturer Part Number: DFE252012F-R33M=P2; Saturation Current: 8.5A; Package Size: 1008; JLCPCB Basic Part: No; JLCPCB Part Number: C2046399; Supplier 1: LCSC; Category: Inductors; Supplier Part Number 1: C2046399; Tolerance: ±20%; Rated Current: 5.1A; DC Resistance: 14mΩ; RoHS: Yes; ComponentLink1Description: Datasheet; ComponentLink1URL: https://wmsc.lcsc.com/wmsc/upload/file/pdf/v2/lcsc/2202010300_Murata-Electronics-DFE252012F-R33M-P2_C2046399.pdf; ComponentLink2Description: JLCPCB Part URL; ComponentLink2URL: https://jlcpcb.com/partdetail/C2046399; ComponentLink3Description: LCSC Part URL; ComponentLink3URL: https://lcsc.com/product-detail/Inductors-SMD_Murata-Electronics-Murata-Electronics-DFE252012F-R33M%3DP2_C2046399.html
footprint IND-1008 (1008 (2520M) Inductor)
pins: 1, 2

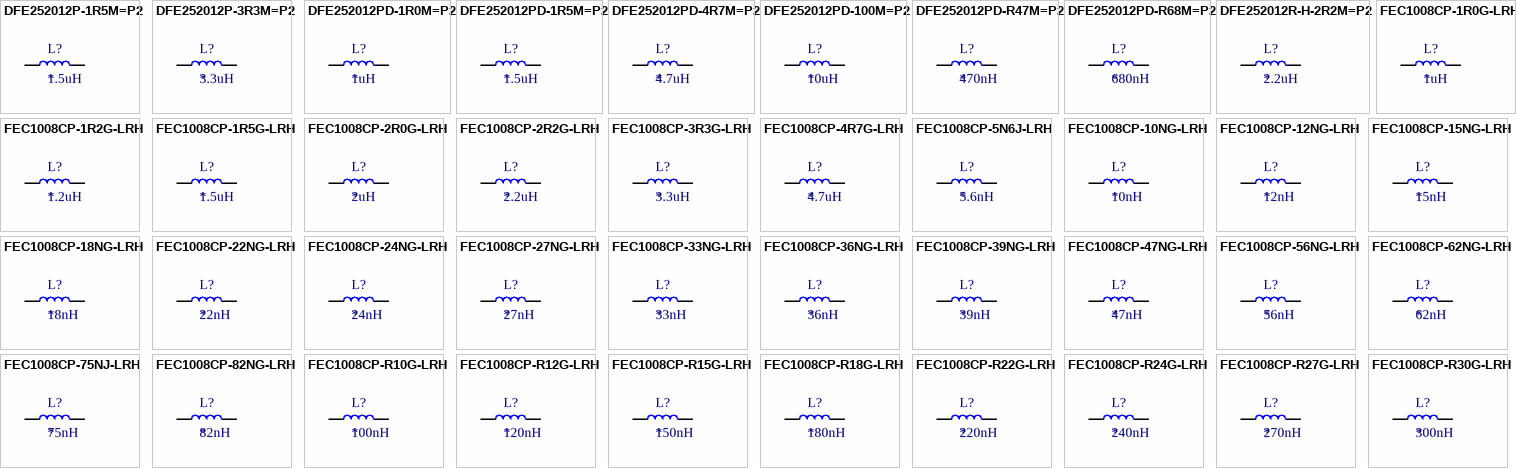
[diagram p1: symbols DFE252012P-1R5M=P2 to FEC1008CP-R30G-LRH]

## DFE252012P-1R5M=P2
designator L?  Inductance: 1.5uH
Inductor, 1.5uH, ±20%, 60mΩ, 2.6A, SMD 1008; Manufacturer: Murata Electronics; Manufacturer Part Number: DFE252012P-1R5M=P2; Package Size: 1008; JLCPCB Basic Part: No; JLCPCB Part Number: C161084; Supplier 1: LCSC; Category: Inductors; Supplier Part Number 1: C161084; Tolerance: ±20%; Rated Current: 2.6A; DC Resistance: 60mΩ; RoHS: Yes; ComponentLink1Description: Datasheet; ComponentLink1URL: https://wmsc.lcsc.com/wmsc/upload/file/pdf/v2/lcsc/1810241513_Murata-Electronics-DFE252012P-1R5M-P2_C161084.pdf; ComponentLink2Description: JLCPCB Part URL; ComponentLink2URL: https://jlcpcb.com/partdetail/C161084; ComponentLink3Description: LCSC Part URL; ComponentLink3URL: https://lcsc.com/product-detail/Inductors-SMD_Murata-Electronics-Murata-Electronics-DFE252012P-1R5M%3DP2_C161084.html
footprint IND-1008 (1008 (2520M) Inductor)
pins: 1, 2

## DFE252012P-3R3M=P2
designator L?  Inductance: 3.3uH
Inductor, 3.3uH, ±20%, 140mΩ, 1.7A, SMD 1008; Manufacturer: Murata Electronics; Manufacturer Part Number: DFE252012P-3R3M=P2; Package Size: 1008; JLCPCB Basic Part: No; JLCPCB Part Number: C161085; Supplier 1: LCSC; Category: Inductors; Supplier Part Number 1: C161085; Tolerance: ±20%; Rated Current: 1.7A; DC Resistance: 140mΩ; RoHS: Yes; ComponentLink1Description: Datasheet; ComponentLink1URL: https://wmsc.lcsc.com/wmsc/upload/file/pdf/v2/lcsc/1810241513_Murata-Electronics-DFE252012P-3R3M-P2_C161085.pdf; ComponentLink2Description: JLCPCB Part URL; ComponentLink2URL: https://jlcpcb.com/partdetail/C161085; ComponentLink3Description: LCSC Part URL; ComponentLink3URL: https://lcsc.com/product-detail/Inductors-SMD_Murata-Electronics-Murata-Electronics-DFE252012P-3R3M%3DP2_C161085.html
footprint IND-1008 (1008 (2520M) Inductor)
pins: 1, 2

## DFE252012PD-1R0M=P2
designator L?  Inductance: 1uH
Inductor, 1uH, ±20%, 42mΩ, 3.2A, SMD 1008; Manufacturer: Murata Electronics; Manufacturer Part Number: DFE252012PD-1R0M=P2; Saturation Current: 3.8A; Package Size: 1008; JLCPCB Basic Part: No; JLCPCB Part Number: C2917900; Supplier 1: LCSC; Category: Inductors; Supplier Part Number 1: C2917900; Tolerance: ±20%; Rated Current: 3.2A; DC Resistance: 42mΩ; RoHS: Yes; ComponentLink1Description: Datasheet; ComponentLink1URL: https://wmsc.lcsc.com/wmsc/upload/file/pdf/v2/lcsc/2203221230_Murata-Electronics-DFE252012PD-1R0M-P2_C2917900.pdf; ComponentLink2Description: JLCPCB Part URL; ComponentLink2URL: https://jlcpcb.com/partdetail/C2917900; ComponentLink3Description: LCSC Part URL; ComponentLink3URL: https://lcsc.com/product-detail/Power-Inductors_Murata-Electronics-Murata-Electronics-DFE252012PD-1R0M%3DP2_C2917900.html
footprint IND-1008 (1008 (2520M) Inductor)
pins: 1, 2

## DFE252012PD-1R5M=P2
designator L?  Inductance: 1.5uH
Inductor, 1.5uH, ±20%, 60mΩ, 2.6A, SMD 1008; Manufacturer: Murata Electronics; Manufacturer Part Number: DFE252012PD-1R5M=P2; Saturation Current: 3.3A; Package Size: 1008; JLCPCB Basic Part: No; JLCPCB Part Number: C1333787; Supplier 1: LCSC; Category: Inductors; Supplier Part Number 1: C1333787; Tolerance: ±20%; Rated Current: 2.6A; DC Resistance: 60mΩ; RoHS: Yes; ComponentLink1Description: Datasheet; ComponentLink1URL: https://wmsc.lcsc.com/wmsc/upload/file/pdf/v2/lcsc/2304140030_Murata-Electronics-DFE252012PD-1R5M-P2_C1333787.pdf; ComponentLink2Description: JLCPCB Part URL; ComponentLink2URL: https://jlcpcb.com/partdetail/C1333787; ComponentLink3Description: LCSC Part URL; ComponentLink3URL: https://lcsc.com/product-detail/Inductors-SMD_Murata-Electronics-Murata-Electronics-DFE252012PD-1R5M%3DP2_C1333787.html
footprint IND-1008 (1008 (2520M) Inductor)
pins: 1, 2

## DFE252012PD-4R7M=P2
designator L?  Inductance: 4.7uH
Inductor, 4.7uH, ±20%, 200mΩ, 1.4A, SMD 1008; Manufacturer: Murata Electronics; Manufacturer Part Number: DFE252012PD-4R7M=P2; Saturation Current: 1.9A; Package Size: 1008; JLCPCB Basic Part: No; JLCPCB Part Number: C396653; Supplier 1: LCSC; Category: Inductors; Supplier Part Number 1: C396653; Tolerance: ±20%; Rated Current: 1.4A; DC Resistance: 200mΩ; RoHS: Yes; ComponentLink1Description: Datasheet; ComponentLink1URL: https://wmsc.lcsc.com/wmsc/upload/file/pdf/v2/lcsc/1912111437_Murata-Electronics-DFE252012PD-4R7M-P2_C396653.pdf; ComponentLink2Description: JLCPCB Part URL; ComponentLink2URL: https://jlcpcb.com/partdetail/C396653; ComponentLink3Description: LCSC Part URL; ComponentLink3URL: https://lcsc.com/product-detail/Inductors-SMD_Murata-Electronics-Murata-Electronics-DFE252012PD-4R7M%3DP2_C396653.html
footprint IND-1008 (1008 (2520M) Inductor)
pins: 1, 2

## DFE252012PD-100M=P2
designator L?  Inductance: 10uH
Inductor, 10uH, ±20%, SMD 1008; Manufacturer: Murata Electronics; Manufacturer Part Number: DFE252012PD-100M=P2; Package Size: 1008; JLCPCB Basic Part: No; JLCPCB Part Number: C2981731; Supplier 1: LCSC; Category: Inductors; Supplier Part Number 1: C2981731; Tolerance: ±20%; RoHS: Yes; ComponentLink1Description: Datasheet; ComponentLink1URL: https://wmsc.lcsc.com/wmsc/upload/file/pdf/v2/lcsc/2203210916_Murata-Electronics-DFE252012PD-100M-P2_C2981731.pdf; ComponentLink2Description: JLCPCB Part URL; ComponentLink2URL: https://jlcpcb.com/partdetail/C2981731; ComponentLink3Description: LCSC Part URL; ComponentLink3URL: https://lcsc.com/product-detail/Inductors-SMD_Murata-Electronics-Murata-Electronics-DFE252012PD-100M%3DP2_C2981731.html
footprint IND-1008 (1008 (2520M) Inductor)
pins: 1, 2

## DFE252012PD-R47M=P2
designator L?  Inductance: 470nH
Inductor, 470nH, ±20%, 27mΩ, 4A, SMD 1008; Manufacturer: Murata Electronics; Manufacturer Part Number: DFE252012PD-R47M=P2; Saturation Current: 5.2A; Package Size: 1008; JLCPCB Basic Part: No; JLCPCB Part Number: C1333867; Supplier 1: LCSC; Category: Inductors; Supplier Part Number 1: C1333867; Tolerance: ±20%; Rated Current: 4A; DC Resistance: 27mΩ; RoHS: Yes; ComponentLink1Description: Datasheet; ComponentLink1URL: https://wmsc.lcsc.com/wmsc/upload/file/pdf/v2/lcsc/2201141530_Murata-Electronics-DFE252012PD-R47M-P2_C1333867.pdf; ComponentLink2Description: JLCPCB Part URL; ComponentLink2URL: https://jlcpcb.com/partdetail/C1333867; ComponentLink3Description: LCSC Part URL; ComponentLink3URL: https://lcsc.com/product-detail/Inductors-SMD_Murata-Electronics-Murata-Electronics-DFE252012PD-R47M%3DP2_C1333867.html
footprint IND-1008 (1008 (2520M) Inductor)
pins: 1, 2

## DFE252012PD-R68M=P2
designator L?  Inductance: 680nH
Inductor, 680nH, ±20%, 37mΩ, 3.5A, SMD 1008; Manufacturer: Murata Electronics; Manufacturer Part Number: DFE252012PD-R68M=P2; Saturation Current: 4.3A; Package Size: 1008; JLCPCB Basic Part: No; JLCPCB Part Number: C2981737; Supplier 1: LCSC; Category: Inductors; Supplier Part Number 1: C2981737; Tolerance: ±20%; Rated Current: 3.5A; DC Resistance: 37mΩ; RoHS: Yes; ComponentLink1Description: Datasheet; ComponentLink1URL: https://wmsc.lcsc.com/wmsc/upload/file/pdf/v2/lcsc/2203210916_Murata-Electronics-DFE252012PD-R68M-P2_C2981737.pdf; ComponentLink2Description: JLCPCB Part URL; ComponentLink2URL: https://jlcpcb.com/partdetail/C2981737; ComponentLink3Description: LCSC Part URL; ComponentLink3URL: https://lcsc.com/product-detail/Power-Inductors_Murata-Electronics-Murata-Electronics-DFE252012PD-R68M%3DP2_C2981737.html
footprint IND-1008 (1008 (2520M) Inductor)
pins: 1, 2

## DFE252012R-H-2R2M=P2
designator L?  Inductance: 2.2uH
Inductor, 2.2uH, ±20%, 90mΩ, 2A, SMD 1008; Manufacturer: Murata Electronics; Manufacturer Part Number: DFE252012R-H-2R2M=P2; Package Size: 1008; JLCPCB Basic Part: No; JLCPCB Part Number: C161086; Supplier 1: LCSC; Category: Inductors; Supplier Part Number 1: C161086; Tolerance: ±20%; Rated Current: 2A; DC Resistance: 90mΩ; RoHS: Yes; ComponentLink1Description: Datasheet; ComponentLink1URL: https://wmsc.lcsc.com/wmsc/upload/file/pdf/v2/lcsc/1810241513_Murata-Electronics-DFE252012R-H-2R2M-P2_C161086.pdf; ComponentLink2Description: JLCPCB Part URL; ComponentLink2URL: https://jlcpcb.com/partdetail/C161086; ComponentLink3Description: LCSC Part URL; ComponentLink3URL: https://lcsc.com/product-detail/Inductors-SMD_Murata-Electronics-Murata-Electronics-DFE252012R-H-2R2M%3DP2_C161086.html
footprint IND-1008 (1008 (2520M) Inductor)
pins: 1, 2

## FEC1008CP-1R0G-LRH
designator L?  Inductance: 1uH
Inductor, 1uH, ±2%, 1.75Ω, 370mA, SMD 1008; Manufacturer: PSA(Prosperity Dielectrics); Manufacturer Part Number: FEC1008CP-1R0G-LRH; Package Size: 1008; JLCPCB Basic Part: No; JLCPCB Part Number: C346410; Supplier 1: LCSC; Category: Inductors; Supplier Part Number 1: C346410; Tolerance: ±2%; Rated Current: 370mA; DC Resistance: 1.75Ω; RoHS: Yes; ComponentLink1Description: Datasheet; ComponentLink1URL: https://wmsc.lcsc.com/wmsc/upload/file/pdf/v2/lcsc/2304140030_PSA-Prosperity-Dielectrics-FEC1008CP-1R0G-LRH_C346410.pdf; ComponentLink2Description: JLCPCB Part URL; ComponentLink2URL: https://jlcpcb.com/partdetail/C346410; ComponentLink3Description: LCSC Part URL; ComponentLink3URL: https://lcsc.com/product-detail/Inductors-SMD_PSAProsperity-Dielectrics-PSAProsperity-Dielectrics-FEC1008CP-1R0G-LRH_C346410.html
footprint IND-1008 (1008 (2520M) Inductor)
pins: 1, 2

## FEC1008CP-1R2G-LRH
designator L?  Inductance: 1.2uH
Inductor, 1.2uH, ±2%, 2Ω, 310mA, SMD 1008; Manufacturer: PSA(Prosperity Dielectrics); Manufacturer Part Number: FEC1008CP-1R2G-LRH; Package Size: 1008; JLCPCB Basic Part: No; JLCPCB Part Number: C346411; Supplier 1: LCSC; Category: Inductors; Supplier Part Number 1: C346411; Tolerance: ±2%; Rated Current: 310mA; DC Resistance: 2Ω; RoHS: Yes; ComponentLink1Description: Datasheet; ComponentLink1URL: https://wmsc.lcsc.com/wmsc/upload/file/pdf/v2/lcsc/2304140030_PSA-Prosperity-Dielectrics-FEC1008CP-1R2G-LRH_C346411.pdf; ComponentLink2Description: JLCPCB Part URL; ComponentLink2URL: https://jlcpcb.com/partdetail/C346411; ComponentLink3Description: LCSC Part URL; ComponentLink3URL: https://lcsc.com/product-detail/Inductors-SMD_PSAProsperity-Dielectrics-PSAProsperity-Dielectrics-FEC1008CP-1R2G-LRH_C346411.html
footprint IND-1008 (1008 (2520M) Inductor)
pins: 1, 2

## FEC1008CP-1R5G-LRH
designator L?  Inductance: 1.5uH
Inductor, 1.5uH, ±2%, 2.3Ω, 330mA, SMD 1008; Manufacturer: PSA(Prosperity Dielectrics); Manufacturer Part Number: FEC1008CP-1R5G-LRH; Package Size: 1008; JLCPCB Basic Part: No; JLCPCB Part Number: C346412; Supplier 1: LCSC; Category: Inductors; Supplier Part Number 1: C346412; Tolerance: ±2%; Rated Current: 330mA; DC Resistance: 2.3Ω; RoHS: Yes; ComponentLink1Description: Datasheet; ComponentLink1URL: https://wmsc.lcsc.com/wmsc/upload/file/pdf/v2/lcsc/2304140030_PSA-Prosperity-Dielectrics-FEC1008CP-1R5G-LRH_C346412.pdf; ComponentLink2Description: JLCPCB Part URL; ComponentLink2URL: https://jlcpcb.com/partdetail/C346412; ComponentLink3Description: LCSC Part URL; ComponentLink3URL: https://lcsc.com/product-detail/Inductors-SMD_PSAProsperity-Dielectrics-PSAProsperity-Dielectrics-FEC1008CP-1R5G-LRH_C346412.html
footprint IND-1008 (1008 (2520M) Inductor)
pins: 1, 2

## FEC1008CP-2R0G-LRH
designator L?  Inductance: 2uH
Inductor, 2uH, ±2%, 2.8Ω, 280mA, SMD 1008; Manufacturer: PSA(Prosperity Dielectrics); Manufacturer Part Number: FEC1008CP-2R0G-LRH; Package Size: 1008; JLCPCB Basic Part: No; JLCPCB Part Number: C346417; Supplier 1: LCSC; Category: Inductors; Supplier Part Number 1: C346417; Tolerance: ±2%; Rated Current: 280mA; DC Resistance: 2.8Ω; RoHS: Yes; ComponentLink1Description: Datasheet; ComponentLink1URL: https://wmsc.lcsc.com/wmsc/upload/file/pdf/v2/lcsc/2304140030_PSA-Prosperity-Dielectrics-FEC1008CP-2R0G-LRH_C346417.pdf; ComponentLink2Description: JLCPCB Part URL; ComponentLink2URL: https://jlcpcb.com/partdetail/C346417; ComponentLink3Description: LCSC Part URL; ComponentLink3URL: https://lcsc.com/product-detail/Inductors-SMD_PSAProsperity-Dielectrics-PSAProsperity-Dielectrics-FEC1008CP-2R0G-LRH_C346417.html
footprint IND-1008 (1008 (2520M) Inductor)
pins: 1, 2

## FEC1008CP-2R2G-LRH
designator L?  Inductance: 2.2uH
Inductor, 2.2uH, ±2%, 2.8Ω, 280mA, SMD 1008; Manufacturer: PSA(Prosperity Dielectrics); Manufacturer Part Number: FEC1008CP-2R2G-LRH; Package Size: 1008; JLCPCB Basic Part: No; JLCPCB Part Number: C346418; Supplier 1: LCSC; Category: Inductors; Supplier Part Number 1: C346418; Tolerance: ±2%; Rated Current: 280mA; DC Resistance: 2.8Ω; RoHS: Yes; ComponentLink1Description: Datasheet; ComponentLink1URL: https://wmsc.lcsc.com/wmsc/upload/file/pdf/v2/lcsc/2304140030_PSA-Prosperity-Dielectrics-FEC1008CP-2R2G-LRH_C346418.pdf; ComponentLink2Description: JLCPCB Part URL; ComponentLink2URL: https://jlcpcb.com/partdetail/C346418; ComponentLink3Description: LCSC Part URL; ComponentLink3URL: https://lcsc.com/product-detail/Inductors-SMD_PSAProsperity-Dielectrics-PSAProsperity-Dielectrics-FEC1008CP-2R2G-LRH_C346418.html
footprint IND-1008 (1008 (2520M) Inductor)
pins: 1, 2

## FEC1008CP-3R3G-LRH
designator L?  Inductance: 3.3uH
Inductor, 3.3uH, ±2%, 3.4Ω, 290mA, SMD 1008; Manufacturer: PSA(Prosperity Dielectrics); Manufacturer Part Number: FEC1008CP-3R3G-LRH; Package Size: 1008; JLCPCB Basic Part: No; JLCPCB Part Number: C346423; Supplier 1: LCSC; Category: Inductors; Supplier Part Number 1: C346423; Tolerance: ±2%; Rated Current: 290mA; DC Resistance: 3.4Ω; RoHS: Yes; ComponentLink1Description: Datasheet; ComponentLink1URL: https://wmsc.lcsc.com/wmsc/upload/file/pdf/v2/lcsc/2304140030_PSA-Prosperity-Dielectrics-FEC1008CP-3R3G-LRH_C346423.pdf; ComponentLink2Description: JLCPCB Part URL; ComponentLink2URL: https://jlcpcb.com/partdetail/C346423; ComponentLink3Description: LCSC Part URL; ComponentLink3URL: https://lcsc.com/product-detail/Inductors-SMD_PSAProsperity-Dielectrics-PSAProsperity-Dielectrics-FEC1008CP-3R3G-LRH_C346423.html
footprint IND-1008 (1008 (2520M) Inductor)
pins: 1, 2